# Altium schematic symbol library battery.SchLib: 1 symbol
Pins are listed as number, name and electrical type; pins without a type are passive.

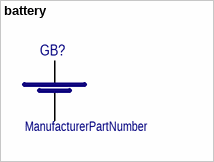
[diagram p0: symbol battery]

## battery
designator GB?  (value not drawn)
ManufacturerPartNumber: ManufacturerPartNumber
pins: minus (power), plus (power)